# EAGLE library part 440GS67082622 (library WS-TATL)
WS-TATL THT Illuminated Tact Switch 12 x 12 mm Material Properties Actuator Material PA66 Actuator Flammability Rating UL94 HB Actuator Color White Base Material PA66 Base Flammability Rating UL94 HB Frame Material PA66 Frame Flammability Rating UL94 HB Frame Color Black Diffuser Plate Flammability Rating UL94 HB LED Terminal Material Copper Alloy LED Terminal Plating Tin Contact Material Stainless Steel Z Contact Plating Silver Terminal Material Copper Alloy Terminal Plating Silver Electrical Properties Contact Resistance Initial 100 mΩ Contact Resistance After Life Test 2 Ω RISO 100 MΩ Withstanding Voltage 500 V (AC) Mechanical Properties Operation Force (Value) 220 g Electrical Life 100000 Cycles Optical Properties Lens Type Water clear; Waterclear Chip Technology AlGaInP; AlGaInP + Gan + InGaN; InGaN Packaging Properties Packaging ESD Tray General Information Operating Temperature -40 °C up to +85 °C <https://www.we-online.com/components/media/o61151v209%20Family_WS_TLT_Illuminated_440xx67082622_pf2.jpg> Details see: www.we-online.com/en/components/products/TATL_12X12_THT <www.we-online.com/catalog/TATL_12X12_THT/?utm_source=eagle_model&utm_medium=description_link&utm_campaign=eisos_eagle> Updated by Ella 2024-12-17 2024(C) Würth Elektronik
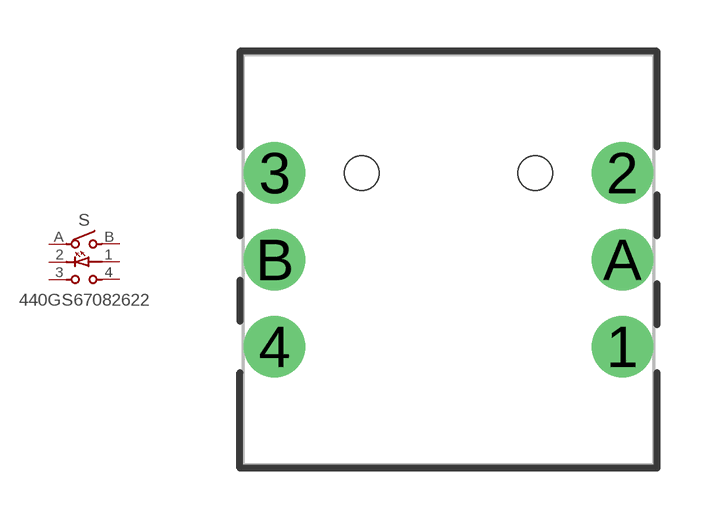
[diagram p1: symbol with the pads of WS-TATL_440XX67082622; footprint WS-TATL_440XX67082622]

Designator prefix S

## 440GS67082622 (DATASHEET-URL: https://www.we-online.com/redexpert/spec/440GS67082622?ae; EMITTING-COLOR: Green; HEIGHT: 8.2mm; PART-NUMBER: 440GS67082622; VALUE: 440GS67082622)  [WS-TATL_440XX67082622]
1  1  pas
2  2  pas
3  3  pas
4  4  pas
A  A  pas
B  B  pas

## Footprint WS-TATL_440XX67082622 (pad centres in mm)
WS-TATL THT Illuminated Tact Switch 12 x 12 mm LXHXH=12X12X8.2mm, THT
drill 1.2: 1 5.08,-2.54; 2 5.08,2.54; 3 -5.08,2.54; 4 -5.08,-2.54; A 5.08,0; B -5.08,0
hole 1 at 2.54,2.54
hole 1 at -2.54,2.54